# Altium footprint library TRANS_POWER_MINI.PcbLib: 10 footprints
Each footprint in its own frame and in the unit in brackets; x right, y up, seen from the top. Pads: shape width x height; smd on the part's side, far side on the other; paste and mask are expansions set on the pad; w line width, h text height; cw(c..) or ccw(c..) is an arc to the next point about the centre after c.
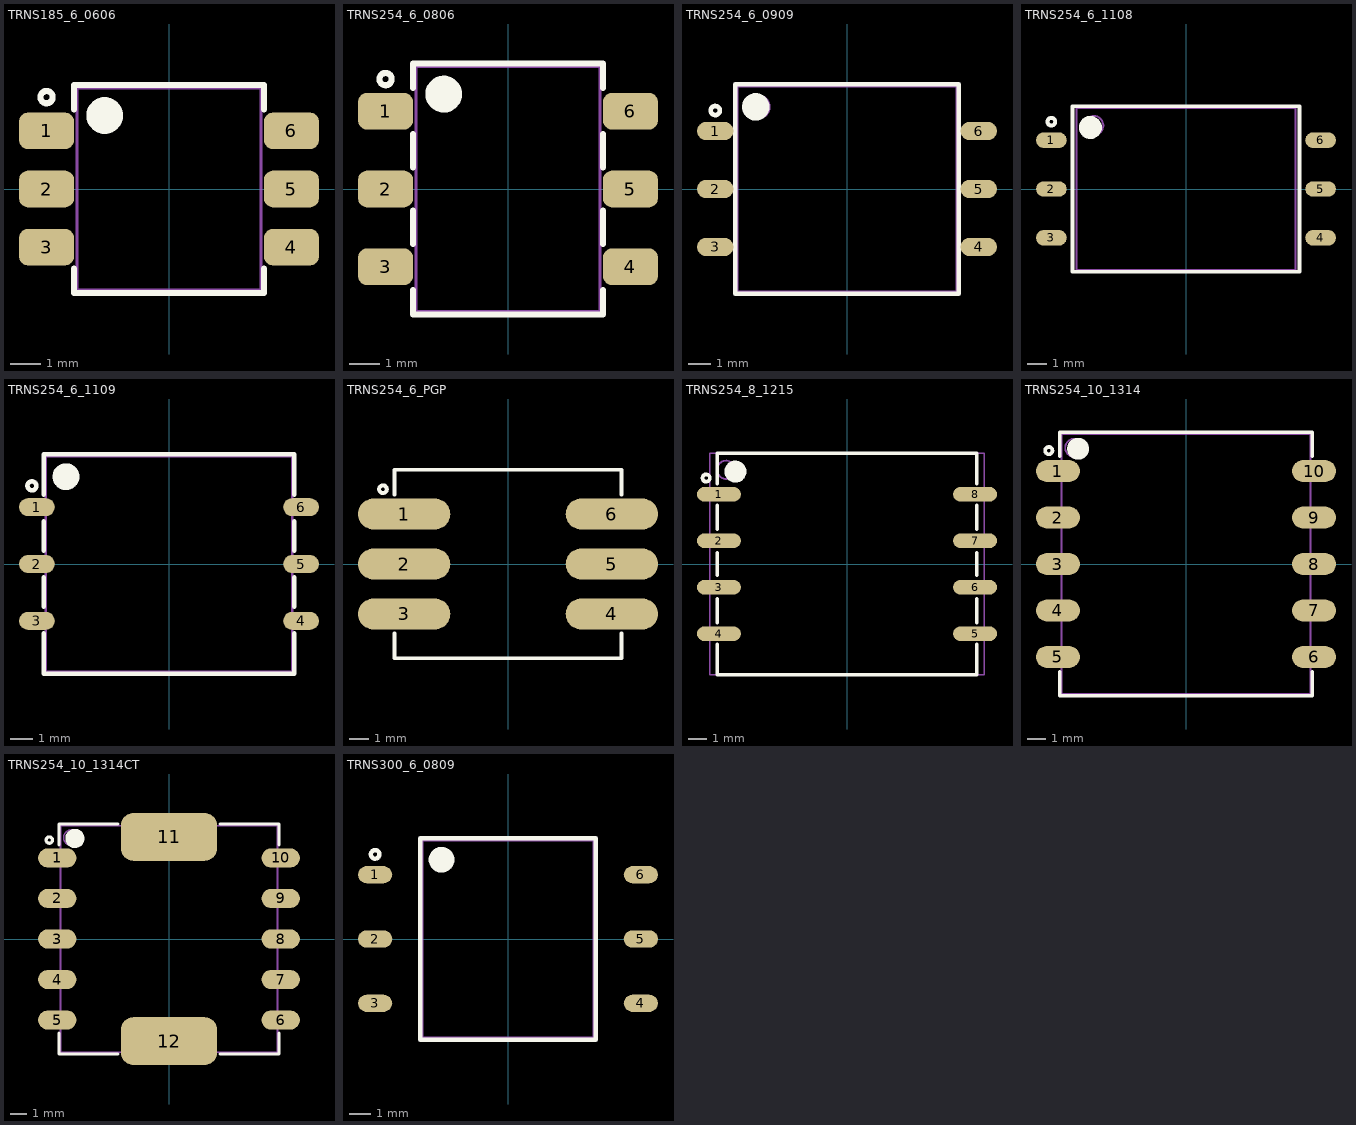
[diagram p0: the footprints below, top view; thin cyan lines are the x and y axes]

## TRNS185_6_0606 [mm] "TRANS, P0926NL, 6mmX6mm, pitch: 1.85mm"
height 5.4
pads (6):
  rrect50% 1.8x1.2 smd: 1(-4,1.9) 2(-4,0) 3(-4,-1.9) 4(4,-1.9) 5(4,0) 6(4,1.9)
Top Overlay:
  circle w0.6: c-2.1,2.4 r0.3
  circle w0.2: c-4,3 r0.2
  lines w0.2: -3.1,-2.6 -3.1,-3.4 3.1,-3.4 3.1,-2.6 ; -3.1,2.6 -3.1,3.4 3.1,3.4 3.1,2.6
Mechanical 13:
  circle w0.1: c-2.1,2.4 r0.5
  lines w0.1: -3,-3.3 3,-3.3 3,3.3 -3,3.3 -3,-3.3
3D body: height 5.3, standoff 1, extent 2.2,-3.3 3,3.3
3D body: height 5.3, standoff 1, extent -3,-3.3 -2.2,3.3
3D body: height 1, standoff 0.5, extent -2.2,-3.3 2.2,3.3
3D body: height 5.3, standoff 1, extent -2.5,-3.3 2.5,3.3
3D body: height 0.4, standoff 0, extent -4,-0.3 -3,0.3
3D body: height 0.4, standoff 0, extent -4,1.6 -3,2.2
3D body: height 0.4, standoff 0, extent -4,-2.2 -3,-1.6
3D body: height 0.4, standoff 0, extent 3,1.6 4,2.2
3D body: height 0.4, standoff 0, extent 3,-2.2 4,-1.6
3D body: height 0.4, standoff 0, extent 3,-0.3 4,0.3
3D body: height 1, standoff 0.1, extent -3,-3.3 -2.2,3.3
3D body: height 1, standoff 0.1, extent 2.2,-3.3 3,3.3

## TRNS254_6_0806 [mm] "TRANS, 8mmX6mm, pitch: 2.54mm"
height 5.7
pads (6):
  rrect50% 1.8x1.2 smd: 1(-4,2.54) 2(-4,0) 3(-4,-2.54) 4(4,-2.54) 5(4,0) 6(4,2.54)
Top Overlay:
  circle w0.2: c-4,3.59 r0.2
  circle w0.6: c-2.1,3.1 r0.3
  lines w0.2: -3.1,-3.3 -3.1,-4.1 3.1,-4.1 3.1,-3.3 ; -3.1,-1.8 -3.1,-0.7 ; -3.1,0.7 -3.1,1.8 ; -3.1,3.3 -3.1,4.1 3.1,4.1 3.1,3.3 ; 3.1,-1.8 3.1,-0.7 ; 3.1,0.7 3.1,1.8
Mechanical 13:
  circle w0.1: c-2.1,3.1 r0.5
  lines w0.1: -3,-4 -3,4 3,4 3,-4 -3,-4
3D body "TRA.step": height 5.7, standoff 0, extent -4.5,-4 4.5,4

## TRNS254_6_0909 [mm] "TRANS, 9mmX9.6mm, pitch: 2.54mm"
height 6.4
pads (6):
  oval 1.6x0.8 smd: 1(-5.775,2.54) 2(-5.775,0) 3(-5.775,-2.54) 4(5.775,-2.54) 5(5.775,0) 6(5.775,2.54)
Top Overlay:
  circle w0.2: c-5.775,3.44 r0.2
  circle w0.6: c-4,3.6 r0.3
  lines w0.2: -4.9,-4.6 -4.9,4.6 4.9,4.6 4.9,-4.6 -4.9,-4.6
Mechanical 13:
  circle w0.1: c-3.9,3.6 r0.5
  lines w0.1: -4.8,-4.5 -4.8,4.5 4.8,4.5 4.8,-4.5 -4.8,-4.5
3D body "SOP127P600-8N.step": height 6.4, standoff 0, extent -6.05,-4.5 6.05,4.5

## TRNS254_6_1108 [mm] "SOP, 6-Leads, 8.4x11.40mm, Pitch 2.54mm"
height 4.2
pads (6):
  oval 1.6x0.8 smd: 1(-7,2.54) 2(-7,0) 3(-7,-2.54) 4(7,-2.54) 5(7,0) 6(7,2.54)
Top Overlay:
  circle w0.2: c-7,3.5 r0.2
  circle w0.6: c-4.975,3.2 r0.3
  lines w0.2: -5.9,-4.3 -5.9,4.3 5.9,4.3 5.9,-4.3 -5.9,-4.3
Mechanical 13:
  circle w0.1: c-4.8,3.3 r0.5
  lines w0.1: -5.7,-4.2 -5.7,4.2 5.7,4.2 5.7,-4.2 -5.7,-4.2
3D body "TRNS254_6_1108.step": height 4.2, standoff 0, extent -7.4,-4.2 7.4,4.2

## TRNS254_6_1109 [mm] "TRANS, 11X9.4mm, Pitch 2.54mm"
height 10
pads (6):
  oval 1.6x0.8 smd: 1(-5.9,2.54) 2(-5.9,0) 3(-5.9,-2.54) 4(5.9,-2.54) 5(5.9,0) 6(5.9,2.54)
Top Overlay:
  circle w0.6: c-4.6,3.9 r0.3
  circle w0.2: c-6.125,3.49 r0.2
  lines w0.2: -5.6,-3.1 -5.6,-4.9 5.6,-4.9 5.6,-3.1 ; -5.6,-1.9 -5.6,-0.6 ; -5.6,0.6 -5.6,1.9 ; -5.6,3.1 -5.6,4.9 5.6,4.9 5.6,3.1 ; 5.6,-1.9 5.6,-0.6 ; 5.6,0.6 5.6,1.9
Mechanical 13:
  circle w0.1: c-4.6,3.9 r0.5
  lines w0.1: -5.5,-4.8 5.5,-4.8 5.5,4.8 -5.5,4.8 -5.5,-4.8
3D body "SOP127P600-8N.step": height 10, standoff 0, extent -6.1,-4.8 6.1,4.8

## TRNS254_6_PGP [mm] "TRANS, push-pull app, General size"
height 10
pads (6):
  oval 4.8x1.6 smd: 1(-5.4,2.6) 2(-5.4,0) 3(-5.4,-2.6) 4(5.4,-2.6) 5(5.4,0) 6(5.4,2.6)
Top Overlay:
  circle w0.2: c-6.5,3.89 r0.2
  lines w0.2: -5.9,-3.6 -5.9,-4.9 5.9,-4.9 5.9,-3.6 ; -5.9,3.6 -5.9,4.9 5.9,4.9 5.9,3.6
3D body "SOP127P600-8N.step": height 10, standoff 0, extent -6.1,-4.8 6.1,4.8

## TRNS254_8_1215 [mm] "TRANS, 12X15mm, Pitch 2.54mm"
height 8.6
pads (8):
  oval 2.4x0.8 smd: 1(-7,3.81) 2(-7,1.27) 3(-7,-1.27) 4(-7,-3.81) 5(7,-3.81) 6(7,-1.27) 7(7,1.27) 8(7,3.81)
Top Overlay:
  circle w0.6: c-6.1,5.05 r0.3
  circle w0.2: c-7.7,4.7 r0.2
  lines w0.2: -7.1,-4.4 -7.1,-6.05 7.1,-6.05 7.1,-4.4 ; -7.1,-3.2 -7.1,-1.9 ; -7.1,-0.6 -7.1,0.6 ; -7.1,1.9 -7.1,3.2 ; -7.1,4.4 -7.1,6.05 7.1,6.05 7.1,4.4 ; 7.1,-3.2 7.1,-1.9 ; 7.1,-0.6 7.1,0.6 ; 7.1,1.9 7.1,3.2
Mechanical 13:
  circle w0.1: c-6.6,5.15 r0.5
  lines w0.1: -7.5,-6.05 7.5,-6.05 7.5,6.05 -7.5,6.05 -7.5,-6.05
3D body "SOP127P600-8N.step": height 8.6, standoff -0.02, extent -7.8,-6.05 7.8,6.05

## TRNS254_10_1314 [mm] "TRANS, 13.5X14.2mm, Pitch 2.54mm"
height 10
pads (10):
  oval 2.4x1.2 smd: 1(-7,5.08) 2(-7,2.54) 3(-7,0) 4(-7,-2.54) 5(-7,-5.08) 6(7,-5.08) 7(7,-2.54) 8(7,0) 9(7,2.54) 10(7,5.08)
Top Overlay:
  circle w0.2: c-7.5,6.2 r0.2
  circle w0.6: c-5.9,6.3 r0.3
  lines w0.2: -6.9,-5.9 -6.9,-7.2 6.9,-7.2 6.9,-5.9 ; -6.9,5.9 -6.9,7.2 6.9,7.2 6.9,5.9
Mechanical 13:
  circle w0.1: c-6.1,6.35 r0.5
  lines w0.1: -6.8,-7.1 -6.8,7.1 6.8,7.1 6.8,-7.1 -6.8,-7.1
3D body: height 10, standoff 0, extent -6.8,-7.1 6.8,7.1

## TRNS254_10_1314CT [mm] "TRANS, 13.5X14.2mm, Pitch 2.54mm"
height 10
pads (12):
  oval 2.4x1.2 smd: 1(-7,5.08) 2(-7,2.54) 3(-7,0) 4(-7,-2.54) 5(-7,-5.08) 6(7,-5.08) 7(7,-2.54) 8(7,0) 9(7,2.54) 10(7,5.08)
  rrect50% 6x3 smd: 11(0,6.4) 12(0,-6.4)
Top Overlay:
  circle w0.6: c-5.9,6.3 r0.3
  circle w0.2: c-7.5,6.2 r0.2
  lines w0.2: -6.9,-5.9 -6.9,-7.2 -3.2,-7.2 ; -6.9,5.9 -6.9,7.2 -3.2,7.2 ; 3.2,-7.2 6.9,-7.2 6.9,-5.9 ; 3.2,7.2 6.9,7.2 6.9,5.9
Mechanical 13:
  circle w0.1: c-6.1,6.35 r0.5
  lines w0.1: -6.8,-7.1 6.8,-7.1 6.8,7.1 -6.8,7.1 -6.8,-7.1
3D body: height 10, standoff 0, extent -6.8,-7.1 6.8,7.1

## TRNS300_6_0809 [mm] "TRANS, 9.2mmX8mm, pitch: 3mm"
height 7.6
pads (6):
  oval 1.6x0.8 smd: 1(-6.2,3) 2(-6.2,0) 3(-6.2,-3) 4(6.2,-3) 5(6.2,0) 6(6.2,3)
Top Overlay:
  circle w0.2: c-6.2,3.95 r0.2
  circle w0.6: c-3.1,3.7 r0.3
  lines w0.2: -4.1,-4.7 -4.1,4.7 4.1,4.7 4.1,-4.7 -4.1,-4.7
Mechanical 13:
  circle w0.1: c-3.1,3.7 r0.5
  lines w0.1: -4,-4.6 -4,4.6 4,4.6 4,-4.6 -4,-4.6
3D body "TRNS254_6_0809.step": height 7.6, standoff 0, extent -6.5,-4.6 6.5,4.6